# EAGLE library part 610006243021 (library Board_to_Board_Connectors_rev15d)
WR-PHD 2.54mm SMT Dual Socket Header Bottom Entry, 6 Pins=>Code : Con_BTB_SHD_2.54_2_610006243021 <http://katalog.we-online.de/media/images/eican/Con_BTB_SHD_2.54_2_6100xx243021_pf2.jpg> Details see: http://katalog.we-online.de/en/em/610_0xx_243_021 Created 2014-05-30, Karrer Zheng 2014 (C) Würth Elektronik
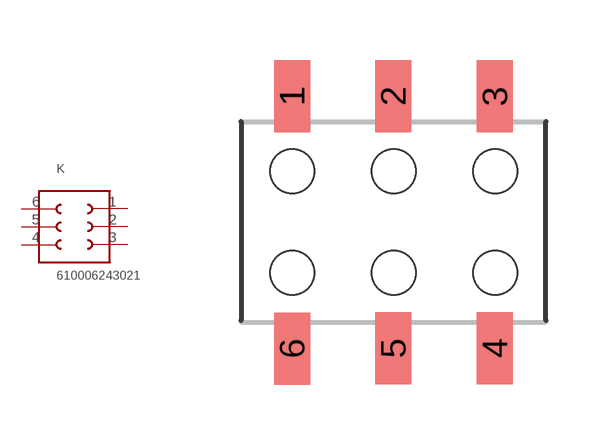
[diagram p183: symbol with the pads of 610006243021; footprint 610006243021]

Designator prefix K

## 610006243021  [610006243021]
1  1  pas
2  2  pas
3  3  pas
4  4  pas
5  5  pas
6  6  pas

## Footprint 610006243021 (pad centres in mm)
WR-PHD 2.54mm SMT Dual Socket Header Bottom Entry, 6 Pins
smd 0.9 x 1.8: 1 -1.27,3.15; 2 1.26,3.14; 3 3.8,3.14; 4 3.8,-3.16; 5 1.26,-3.16; 6 -1.27,-3.17
hole 1.1 at -1.27,1.27
hole 1.1 at 1.27,1.27
hole 1.1 at 1.27,-1.27
hole 1.1 at -1.27,-1.27
hole 1.1 at 3.81,1.27
hole 1.1 at 3.81,-1.27